# Altium schematic symbol library TI LDC1312.SchLib: 1 symbol
Pins are listed as number, name and electrical type; pins without a type are passive.

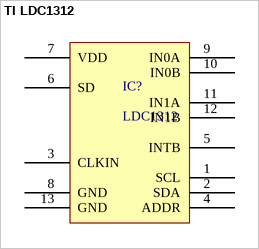
[diagram p0: symbol TI LDC1312]

## TI LDC1312
designator IC?, comment LDC1312
pins: 1 SCL, 2 SDA, 3 CLKIN, 4 ADDR, 5 INTB, 6 SD, 7 VDD, 8 GND, 9 IN0A, 10 IN0B, 11 IN1A, 12 IN1B, 13 GND